# EAGLE library part LT1720 (library Fitch_Eagle_Library)
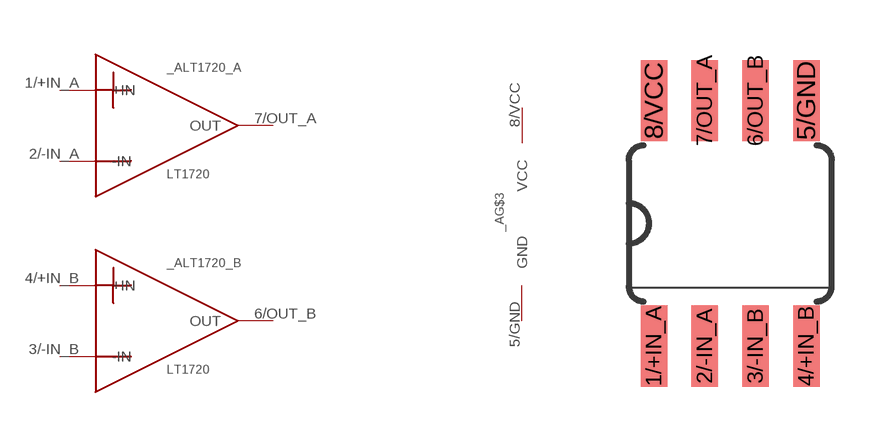
[diagram p7: symbol with the pads of LT1720; footprint LT1720]

Designator prefix _A; gates LT1720_A=COMPARATOR LT1720_B=COMPARATOR G$3=VCC-GND

## LT1720  [LT1720]
1/+IN_A  LT1720_A:+IN
2/-IN_A  LT1720_A:-IN
3/-IN_B  LT1720_B:-IN
4/+IN_B  LT1720_B:+IN
5/GND  G$3:GND
6/OUT_B  LT1720_B:OUT
7/OUT_A  LT1720_A:OUT
8/VCC  G$3:VCC

## Footprint LT1720 (pad centres in mm)
smd 0.66 x 2.032: 1/+IN_A -1.905,-3.073; 2/-IN_A -0.635,-3.073; 3/-IN_B 0.635,-3.073; 4/+IN_B 1.905,-3.073; 5/GND 1.905,3.073; 6/OUT_B 0.635,3.073; 7/OUT_A -0.635,3.073; 8/VCC -1.905,3.073